# EAGLE library part LISA_M_VBOARD (library joby_robotics)
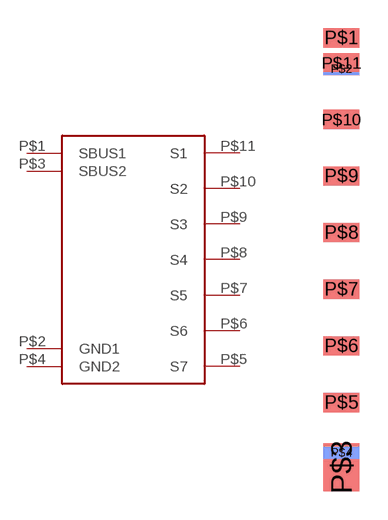
[diagram p1: symbol with the pads of LISA_M_VBOARD; footprint LISA_M_VBOARD]

Designator prefix -

## LISA_M_VBOARD  [LISA_M_VBOARD]
P$1  SBUS1
P$2  GND1
P$3  SBUS2
P$4  GND2
P$5  S7
P$6  S6
P$7  S5
P$8  S4
P$9  S3
P$10  S2
P$11  S1

## Footprint LISA_M_VBOARD (pad centres in mm)
smd 1.905 x 1.016: P$1 -1.905,11.811; P$5 -1.905,-7.5; P$6 -1.905,-4.5; P$7 -1.905,-1.5; P$8 -1.905,1.5; P$9 -1.905,4.5; P$10 -1.905,7.5; P$11 -1.905,10.5
smd 1.905 x 0.635 bottom: P$2 -1.905,10.16; P$4 -1.905,-10.16
smd 1.905 x 2.54: P$3 -1.905,-10.922